# Altium footprint library CC0201MRX5R6BB105.PcbLib: 3 footprints
Each footprint in its own frame and in the unit in brackets; x right, y up, seen from the top. Pads: shape width x height; smd on the part's side, far side on the other; paste and mask are expansions set on the pad; w line width, h text height; cw(c..) or ccw(c..) is an arc to the next point about the centre after c.
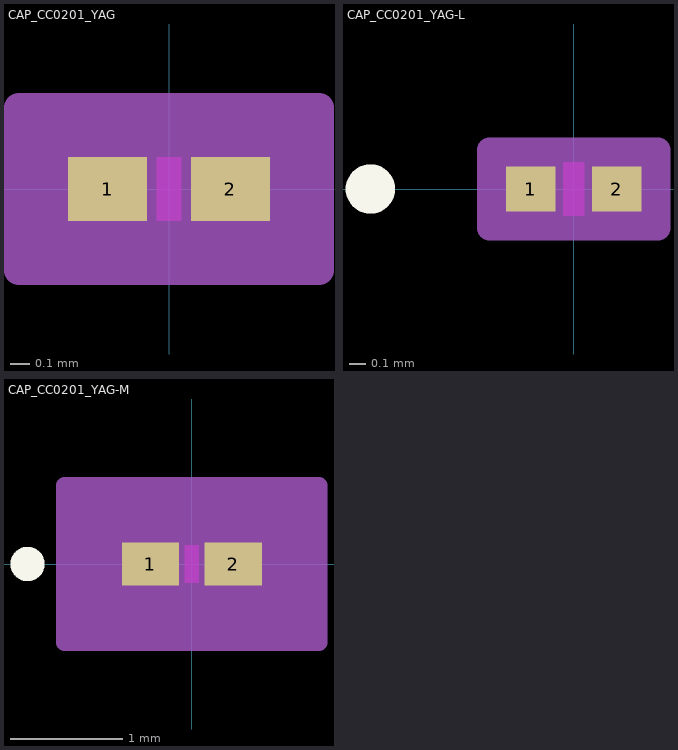
[diagram p0: the footprints below, top view; thin cyan lines are the x and y axes]

## CAP_CC0201_YAG [mil]
pads (2):
  rect 16x13 smd paste+0 mask+0: 1(-12.5,0) 2(12.5,0)
Top Layer keep-out:
  region: -2.5,-4.5 -2.5,4.5 2.5,4.5 2.5,-4.5
Keep-Out Layer:
  region: -2.5,-6.5 -2.5,6.5 2.5,6.5 2.5,-6.5
Mechanical 13:
  lines w1: -12.5,-6.5 -12.5,6.5 ; -12.5,-6.5 12.5,-6.5 ; -12.5,-6.5 -4.5,-6.5 -4.5,6.5 -12.5,6.5 ; -12.5,-6.5 -12.5,6.5 ; -12.5,6.5 12.5,6.5 ; 12.5,-6.5 12.5,6.5 ; 12.5,-6.5 12.5,6.5 ; 12.5,-6.5 4.5,-6.5 4.5,6.5 12.5,6.5
Mechanical 15:
  region: 30.5,-16.5 -30.5,-16.5 -30.5,16.5 30.5,16.5
  lines w6: -30.5,-16.5 30.5,-16.5 30.5,16.5 -30.5,16.5 -30.5,-16.5
3D body "CAP_CC0201_YAG.step": height 12.99, standoff 0, extent -12.52,-6.5 12.52,6.5

## CAP_CC0201_YAG-L [mil]
pads (2):
  rect 12x11 smd paste+0 mask+0: 1(-10.5,0) 2(10.5,0)
Top Layer keep-out:
  region: -2.5,-4.5 -2.5,4.5 2.5,4.5 2.5,-4.5
Top Overlay:
  circle w6: c-49.5,0 r3
Keep-Out Layer:
  region: -2.5,-6.5 -2.5,6.5 2.5,6.5 2.5,-6.5
Mechanical 13:
  circle w0: c-5.5,0 r3
  lines w1: -12.5,-6.5 -12.5,6.5 ; -12.5,-6.5 -4.5,-6.5 -4.5,6.5 -12.5,6.5 ; -12.5,-6.5 12.5,-6.5 ; -12.5,-6.5 -12.5,6.5 ; -12.5,6.5 12.5,6.5 ; 12.5,-6.5 4.5,-6.5 4.5,6.5 12.5,6.5 ; 12.5,-6.5 12.5,6.5 ; 12.5,-6.5 12.5,6.5
Mechanical 15:
  region: 20.5,-9.5 -20.5,-9.5 -20.5,9.5 20.5,9.5
  lines w6: -20.5,-9.5 -20.5,9.5 20.5,9.5 20.5,-9.5 -20.5,-9.5
3D body "CAP_CC0201_YAG.step": height 12.99, standoff 0, extent -12.52,-6.5 12.52,6.5

## CAP_CC0201_YAG-M [mil]
pads (2):
  rect 20x15 smd paste+0 mask+0: 1(-14.5,0) 2(14.5,0)
Top Layer keep-out:
  region: -2.5,-4.5 -2.5,4.5 2.5,4.5 2.5,-4.5
Top Overlay:
  circle w6: c-57.5,0 r3
Keep-Out Layer:
  region: -2.5,-6.5 -2.5,6.5 2.5,6.5 2.5,-6.5
Mechanical 13:
  circle w0: c-9.5,0 r3
  lines w1: -12.5,-6.5 -12.5,6.5 ; -12.5,-6.5 -4.5,-6.5 -4.5,6.5 -12.5,6.5 ; -12.5,-6.5 12.5,-6.5 ; -12.5,-6.5 -12.5,6.5 ; -12.5,6.5 12.5,6.5 ; 12.5,-6.5 4.5,-6.5 4.5,6.5 12.5,6.5 ; 12.5,-6.5 12.5,6.5 ; 12.5,-6.5 12.5,6.5
Mechanical 15:
  region: 44.5,-27.5 -44.5,-27.5 -44.5,27.5 44.5,27.5
  lines w6: -44.5,-27.5 -44.5,27.5 44.5,27.5 44.5,-27.5 -44.5,-27.5
3D body "CAP_CC0201_YAG.step": height 12.99, standoff 0, extent -12.52,-6.5 12.52,6.5